# EAGLE library part MR07C-06200 (library BluePillF4)
All-plastic TF card holder
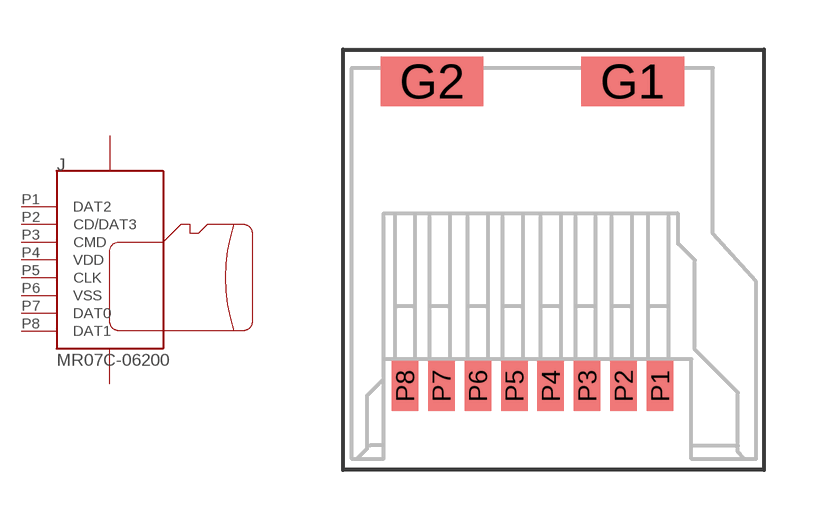
[diagram p7: symbol with the pads of MR07C-06200; footprint MR07C-06200]

Designator prefix J

## MR07C-06200 (HEIGHT: 1.9mm; PARTNO: MR07C-06200)  [MR07C-06200]
G1  GND  pwr
G2  GND  pwr
P1  DAT2
P2  CD/DAT3
P3  CMD  in
P4  VDD  pwr
P5  CLK  in
P6  VSS  pwr
P7  DAT0
P8  DAT1

## Footprint MR07C-06200 (pad centres in mm)
All-plastic TF card holder
smd 3.1 x 1.5: G1 3.03,9.2; G2 -3.03,9.2
smd 0.8 x 1.5: P1 3.85,0; P2 2.75,0; P3 1.65,0; P4 0.55,0; P5 -0.55,0; P6 -1.65,0; P7 -2.75,0; P8 -3.85,0